# EAGLE library part AT86RF230 (library rocket)
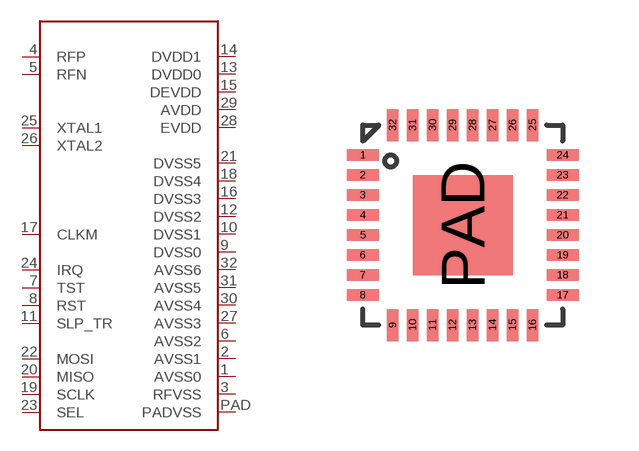
[diagram p1: symbol with the pads of QFN32; footprint QFN32]

Designator prefix -

## AT86RF230  [QFN32]
1  AVSS0
2  AVSS1
3  RFVSS
4  RFP
5  RFN
6  AVSS2
7  TST
8  RST
9  DVSS0
10  DVSS1
11  SLP_TR
12  DVSS2
13  DVDD0
14  DVDD1
15  DEVDD
16  DVSS3
17  CLKM
18  DVSS4
19  SCLK
20  MISO
21  DVSS5
22  MOSI
23  SEL
24  IRQ
25  XTAL1
26  XTAL2
27  AVSS3
28  EVDD
29  AVDD
30  AVSS4
31  AVSS5
32  AVSS6
PAD  PADVSS

## Footprint QFN32 (pad centres in mm)
smd 0.8 x 0.285: 1 -2.5,1.75; 2 -2.5,1.25; 3 -2.5,0.75; 4 -2.5,0.25; 5 -2.5,-0.25; 6 -2.5,-0.75; 7 -2.5,-1.25; 8 -2.5,-1.75; 17 2.5,-1.75; 18 2.5,-1.25; 19 2.5,-0.75; 20 2.5,-0.25; 21 2.5,0.25; 22 2.5,0.75; 23 2.5,1.25; 24 2.5,1.75
smd 0.285 x 0.8: 9 -1.75,-2.5; 10 -1.25,-2.5; 11 -0.75,-2.5; 12 -0.25,-2.5; 13 0.25,-2.5; 14 0.75,-2.5; 15 1.25,-2.5; 16 1.75,-2.5; 25 1.75,2.5; 26 1.25,2.5; 27 0.75,2.5; 28 0.25,2.5; 29 -0.25,2.5; 30 -0.75,2.5; 31 -1.25,2.5; 32 -1.75,2.5
smd 2.5 x 2.5: PAD 0,0